# Altium integrated library Capacitors - Ceramic - 0402.IntLib: 4569 symbols (part 99 of 100)
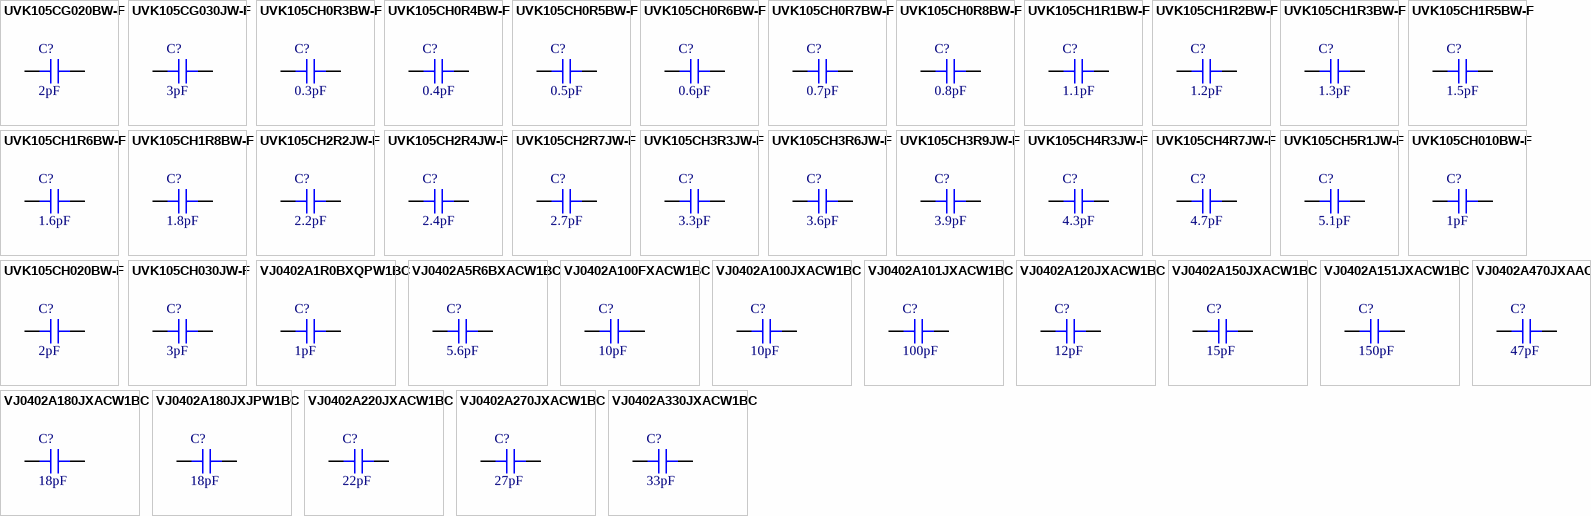
[diagram p212: symbols UVK105CG020BW-F to VJ0402A470JXAAC]

## UVK105CH4R3JW-F
designator C?, comment 4.3pF
CAP CER 4.3PF 50V C0H 0402; Part Number: UVK105CH4R3JW-F; Manufacturer: Taiyo Yuden; Tolerance: ±5%; Value: 4.3pF; Applications: RF, Microwave, High Frequency; Capacitance: 4.3pF; ComponentLink1Description: Datasheet; ComponentLink1URL: https://www.yuden.co.jp/productdata/catalog/mlcc04_e.pdf; ComponentLink2Description: DigiKey Link; ComponentLink2URL: http://digikey.com/product-detail/en/taiyo-yuden/UVK105CH4R3JW-F/587-1022-1-ND/930799; Device Package: 0402 (1005 Metric); Features: High Q, Low Loss; LastUpdated: 9/2/2020 1:02:14 AM; Lifecycle Status: Active; Minimum Order: 1; Mounting Type: Surface Mount, MLCC; Operating Temperature: -55°C ~ 125°C; Package / Case: 0402 (1005 Metric); Packaging: TapeAndReel; PartId: 6484; Part Status: Active; Price: 0.03; Series: UVK; Size / Dimension: 0.039" L x 0.020" W (1.00mm x 0.50mm); Supplier 1: DigiKey; Supplier Part Number 1: 587-1022-1-ND; Temperature Coefficient: C0H; Thickness (Max): 0.022" (0.55mm); Voltage - Rated: 50V
footprint CAP 0402_1005
pins: 1, 2

## UVK105CH4R7JW-F
designator C?, comment 4.7pF
CAP CER 4.7PF 50V C0H 0402; Part Number: UVK105CH4R7JW-F; Manufacturer: Taiyo Yuden; Tolerance: ±5%; Value: 4.7pF; Applications: RF, Microwave, High Frequency; Capacitance: 4.7pF; ComponentLink1Description: Datasheet; ComponentLink1URL: https://www.yuden.co.jp/productdata/catalog/mlcc04_e.pdf; ComponentLink2Description: DigiKey Link; ComponentLink2URL: http://digikey.com/product-detail/en/taiyo-yuden/UVK105CH4R7JW-F/587-1023-1-ND/930800; Device Package: 0402 (1005 Metric); Features: High Q, Low Loss; LastUpdated: 9/2/2020 1:02:23 AM; Lifecycle Status: Active; Minimum Order: 1; Mounting Type: Surface Mount, MLCC; Operating Temperature: -55°C ~ 125°C; Package / Case: 0402 (1005 Metric); Packaging: TapeAndReel; PartId: 2360; Part Status: Active; Price: 0.03; Series: UVK; Size / Dimension: 0.039" L x 0.020" W (1.00mm x 0.50mm); Supplier 1: DigiKey; Supplier Part Number 1: 587-1023-1-ND; Temperature Coefficient: C0H; Thickness (Max): 0.022" (0.55mm); Voltage - Rated: 50V
footprint CAP 0402_1005
pins: 1, 2

## UVK105CH5R1JW-F
designator C?, comment 5.1pF
CAP CER 5.1PF 50V C0H 0402; Part Number: UVK105CH5R1JW-F; Manufacturer: Taiyo Yuden; Tolerance: ±5%; Value: 5.1pF; Applications: RF, Microwave, High Frequency; Capacitance: 5.1pF; ComponentLink1Description: Datasheet; ComponentLink1URL: https://www.yuden.co.jp/productdata/catalog/mlcc04_e.pdf; ComponentLink2Description: DigiKey Link; ComponentLink2URL: http://digikey.com/product-detail/en/taiyo-yuden/UVK105CH5R1JW-F/587-1024-1-ND/930801; Device Package: 0402 (1005 Metric); Features: High Q, Low Loss; LastUpdated: 9/2/2020 1:02:14 AM; Lifecycle Status: Active; Minimum Order: 1; Mounting Type: Surface Mount, MLCC; Operating Temperature: -55°C ~ 125°C; Package / Case: 0402 (1005 Metric); Packaging: TapeAndReel; PartId: 6515; Part Status: Active; Price: 0.03; Series: UVK; Size / Dimension: 0.039" L x 0.020" W (1.00mm x 0.50mm); Supplier 1: DigiKey; Supplier Part Number 1: 587-1024-1-ND; Temperature Coefficient: C0H; Thickness (Max): 0.022" (0.55mm); Voltage - Rated: 50V
footprint CAP 0402_1005
pins: 1, 2

## UVK105CH010BW-F
designator C?, comment 1pF
CAP CER 1PF 50V C0H 0402; Part Number: UVK105CH010BW-F; Manufacturer: Taiyo Yuden; Tolerance: ±0.1pF; Value: 1pF; Applications: RF, Microwave, High Frequency; Capacitance: 1pF; ComponentLink1Description: Datasheet; ComponentLink1URL: https://www.yuden.co.jp/productdata/catalog/mlcc04_e.pdf; ComponentLink2Description: DigiKey Link; ComponentLink2URL: http://digikey.com/product-detail/en/taiyo-yuden/UVK105CH010BW-F/587-1007-1-ND/930784; Device Package: 0402 (1005 Metric); Features: High Q, Low Loss; LastUpdated: 9/2/2020 1:02:13 AM; Lifecycle Status: Active; Minimum Order: 1; Mounting Type: Surface Mount, MLCC; Operating Temperature: -55°C ~ 125°C; Package / Case: 0402 (1005 Metric); Packaging: TapeAndReel; PartId: 6909; Part Status: Active; Price: 0.03; Series: UVK; Size / Dimension: 0.039" L x 0.020" W (1.00mm x 0.50mm); Supplier 1: DigiKey; Supplier Part Number 1: 587-1007-1-ND; Temperature Coefficient: C0H; Thickness (Max): 0.022" (0.55mm); Voltage - Rated: 50V
footprint CAP 0402_1005
pins: 1, 2

## UVK105CH020BW-F
designator C?, comment 2pF
CAP CER 2PF 50V C0H 0402; Part Number: UVK105CH020BW-F; Manufacturer: Taiyo Yuden; Tolerance: ±0.1pF; Value: 2pF; Applications: RF, Microwave, High Frequency; Capacitance: 2pF; ComponentLink1Description: Datasheet; ComponentLink1URL: https://www.yuden.co.jp/productdata/catalog/mlcc04_e.pdf; ComponentLink2Description: DigiKey Link; ComponentLink2URL: http://digikey.com/product-detail/en/taiyo-yuden/UVK105CH020BW-F/587-1014-1-ND/930791; Device Package: 0402 (1005 Metric); Features: High Q, Low Loss; LastUpdated: 9/2/2020 1:02:23 AM; Lifecycle Status: Active; Minimum Order: 1; Mounting Type: Surface Mount, MLCC; Operating Temperature: -55°C ~ 125°C; Package / Case: 0402 (1005 Metric); Packaging: TapeAndReel; PartId: 2352; Part Status: Active; Price: 0.03; Series: UVK; Size / Dimension: 0.039" L x 0.020" W (1.00mm x 0.50mm); Supplier 1: DigiKey; Supplier Part Number 1: 587-1014-1-ND; Temperature Coefficient: C0H; Thickness (Max): 0.022" (0.55mm); Voltage - Rated: 50V
footprint CAP 0402_1005
pins: 1, 2

## UVK105CH030JW-F
designator C?, comment 3pF
CAP CER 3PF 50V C0H 0402; Part Number: UVK105CH030JW-F; Manufacturer: Taiyo Yuden; Tolerance: ±5%; Value: 3pF; Applications: RF, Microwave, High Frequency; Capacitance: 3pF; ComponentLink1Description: Datasheet; ComponentLink1URL: https://www.yuden.co.jp/productdata/catalog/mlcc04_e.pdf; ComponentLink2Description: DigiKey Link; ComponentLink2URL: http://digikey.com/product-detail/en/taiyo-yuden/UVK105CH030JW-F/587-1018-1-ND/930795; Device Package: 0402 (1005 Metric); Features: High Q, Low Loss; LastUpdated: 9/2/2020 1:02:23 AM; Lifecycle Status: Active; Minimum Order: 1; Mounting Type: Surface Mount, MLCC; Operating Temperature: -55°C ~ 125°C; Package / Case: 0402 (1005 Metric); Packaging: TapeAndReel; PartId: 2357; Part Status: Active; Price: 0.03; Series: UVK; Size / Dimension: 0.039" L x 0.020" W (1.00mm x 0.50mm); Supplier 1: DigiKey; Supplier Part Number 1: 587-1018-1-ND; Temperature Coefficient: C0H; Thickness (Max): 0.022" (0.55mm); Voltage - Rated: 50V
footprint CAP 0402_1005
pins: 1, 2

## VJ0402A1R0BXQPW1BC
designator C?, comment 1pF
CAP CER 1PF 10V C0G/NP0 0402; Part Number: VJ0402A1R0BXQPW1BC; Manufacturer: Vishay Vitramon; Temperature Coefficient: C0G, NP0; Tolerance: ±0.1pF; Value: 1pF; Applications: General Purpose; Capacitance: 1pF; ComponentLink1Description: Datasheet; ComponentLink1URL: https://www.vishay.com/docs/28548/vjw1bcbascomseries.pdf; ComponentLink2Description: DigiKey Link; ComponentLink2URL: http://digikey.com/product-detail/en/vishay-vitramon/VJ0402A1R0BXQPW1BC/720-VJ0402A1R0BXQPW1BCCT-ND/11198349; Device Package: 0402 (1005 Metric); LastUpdated: 9/2/2020 1:01:09 AM; Lifecycle Status: Active; Minimum Order: 1; Mounting Type: Surface Mount, MLCC; Operating Temperature: -55°C ~ 125°C; Package / Case: 0402 (1005 Metric); Packaging: TapeAndReel; PartId: 26167; Part Status: Active; Price: 0.02; Series: VJ; Supplier 1: DigiKey; Supplier Part Number 1: 720-VJ0402A1R0BXQPW1BCCT-ND; Voltage - Rated: 10V
footprint CAP 0402_1005
pins: 1, 2

## VJ0402A5R6BXACW1BC
designator C?, comment 5.6pF
CAP CER 5.6PF 50V C0G/NP0 0402; Part Number: VJ0402A5R6BXACW1BC; Manufacturer: Vishay Vitramon; Temperature Coefficient: C0G, NP0; Tolerance: ±0.1pF; Value: 5.6pF; Applications: General Purpose; Capacitance: 5.6pF; ComponentLink1Description: Datasheet; ComponentLink1URL: https://www.vishay.com/docs/28548/vjw1bcbascomseries.pdf; ComponentLink2Description: DigiKey Link; ComponentLink2URL: http://digikey.com/product-detail/en/vishay-vitramon/VJ0402A5R6BXACW1BC/720-VJ0402A5R6BXACW1BCCT-ND/11198455; Device Package: 0402 (1005 Metric); LastUpdated: 9/2/2020 1:01:09 AM; Lifecycle Status: Active; Minimum Order: 1; Mounting Type: Surface Mount, MLCC; Operating Temperature: -55°C ~ 125°C; Package / Case: 0402 (1005 Metric); Packaging: TapeAndReel; PartId: 26165; Part Status: Active; Price: 0.03; Series: VJ; Supplier 1: DigiKey; Supplier Part Number 1: 720-VJ0402A5R6BXACW1BCCT-ND; Voltage - Rated: 50V
footprint CAP 0402_1005
pins: 1, 2

## VJ0402A100FXACW1BC
designator C?, comment 10pF
CAP CER 10PF 50V C0G/NP0 0402; Part Number: VJ0402A100FXACW1BC; Manufacturer: Vishay Vitramon; Temperature Coefficient: C0G, NP0; Tolerance: ±1%; Value: 10pF; Applications: General Purpose; Capacitance: 10pF; ComponentLink1Description: Datasheet; ComponentLink1URL: https://www.vishay.com/docs/28548/vjw1bcbascomseries.pdf; ComponentLink2Description: DigiKey Link; ComponentLink2URL: http://digikey.com/product-detail/en/vishay-vitramon/VJ0402A100FXACW1BC/720-VJ0402A100FXACW1BCCT-ND/11198411; Device Package: 0402 (1005 Metric); LastUpdated: 9/2/2020 1:01:09 AM; Lifecycle Status: Active; Minimum Order: 1; Mounting Type: Surface Mount, MLCC; Operating Temperature: -55°C ~ 125°C; Package / Case: 0402 (1005 Metric); Packaging: TapeAndReel; PartId: 26164; Part Status: Active; Price: 0.03; Series: VJ; Supplier 1: DigiKey; Supplier Part Number 1: 720-VJ0402A100FXACW1BCCT-ND; Voltage - Rated: 50V
footprint CAP 0402_1005
pins: 1, 2

## VJ0402A100JXACW1BC
designator C?, comment 10pF
CAP CER 10PF 50V C0G/NP0 0402; Part Number: VJ0402A100JXACW1BC; Manufacturer: Vishay Vitramon; Temperature Coefficient: C0G, NP0; Tolerance: ±5%; Value: 10pF; Applications: General Purpose; Capacitance: 10pF; ComponentLink1Description: Datasheet; ComponentLink1URL: https://www.vishay.com/docs/28548/vjw1bcbascomseries.pdf; ComponentLink2Description: DigiKey Link; ComponentLink2URL: http://digikey.com/product-detail/en/vishay-vitramon/VJ0402A100JXACW1BC/720-1592-1-ND/420952; Device Package: 0402 (1005 Metric); LastUpdated: 9/2/2020 1:02:23 AM; Lifecycle Status: Active; Minimum Order: 1; Mounting Type: Surface Mount, MLCC; Operating Temperature: -55°C ~ 125°C; Package / Case: 0402 (1005 Metric); Packaging: TapeAndReel; PartId: 2226; Part Status: Active; Price: 0.02; Series: VJ; Size / Dimension: 0.039" L x 0.020" W (1.00mm x 0.50mm); Supplier 1: DigiKey; Supplier Part Number 1: 720-1592-1-ND; Thickness (Max): 0.022" (0.55mm); Voltage - Rated: 50V
footprint CAP 0402_1005
pins: 1, 2

## VJ0402A101JXACW1BC
designator C?, comment 100pF
CAP CER 100PF 50V C0G/NP0 0402; Part Number: VJ0402A101JXACW1BC; Manufacturer: Vishay Vitramon; Temperature Coefficient: C0G, NP0; Tolerance: ±5%; Value: 100pF; Applications: General Purpose; Capacitance: 100pF; ComponentLink1Description: Datasheet; ComponentLink1URL: https://www.vishay.com/docs/28548/vjw1bcbascomseries.pdf; ComponentLink2Description: DigiKey Link; ComponentLink2URL: http://digikey.com/product-detail/en/vishay-vitramon/VJ0402A101JXACW1BC/720-1520-1-ND/420961; Device Package: 0402 (1005 Metric); LastUpdated: 9/2/2020 1:02:23 AM; Lifecycle Status: Active; Minimum Order: 1; Mounting Type: Surface Mount, MLCC; Operating Temperature: -55°C ~ 125°C; Package / Case: 0402 (1005 Metric); Packaging: TapeAndReel; PartId: 2228; Part Status: Active; Price: 0.02; Series: VJ; Size / Dimension: 0.039" L x 0.020" W (1.00mm x 0.50mm); Supplier 1: DigiKey; Supplier Part Number 1: 720-1520-1-ND; Thickness (Max): 0.022" (0.55mm); Voltage - Rated: 50V
footprint CAP 0402_1005
pins: 1, 2

## VJ0402A120JXACW1BC
designator C?, comment 12pF
CAP CER 12PF 50V C0G/NP0 0402; Part Number: VJ0402A120JXACW1BC; Manufacturer: Vishay Vitramon; Temperature Coefficient: C0G, NP0; Tolerance: ±5%; Value: 12pF; Applications: General Purpose; Capacitance: 12pF; ComponentLink1Description: Datasheet; ComponentLink1URL: https://www.vishay.com/docs/28548/vjw1bcbascomseries.pdf; ComponentLink2Description: DigiKey Link; ComponentLink2URL: http://digikey.com/product-detail/en/vishay-vitramon/VJ0402A120JXACW1BC/720-1519-1-ND/420953; Device Package: 0402 (1005 Metric); LastUpdated: 9/2/2020 1:02:11 AM; Lifecycle Status: Active; Minimum Order: 1; Mounting Type: Surface Mount, MLCC; Operating Temperature: -55°C ~ 125°C; Package / Case: 0402 (1005 Metric); Packaging: TapeAndReel; PartId: 7717; Part Status: Active; Price: 0.02; Series: VJ; Size / Dimension: 0.039" L x 0.020" W (1.00mm x 0.50mm); Supplier 1: DigiKey; Supplier Part Number 1: 720-1519-1-ND; Thickness (Max): 0.022" (0.55mm); Voltage - Rated: 50V
footprint CAP 0402_1005
pins: 1, 2

## VJ0402A150JXACW1BC
designator C?, comment 15pF
CAP CER 15PF 50V C0G/NP0 0402; Part Number: VJ0402A150JXACW1BC; Manufacturer: Vishay Vitramon; Temperature Coefficient: C0G, NP0; Tolerance: ±5%; Value: 15pF; Applications: General Purpose; Capacitance: 15pF; ComponentLink1Description: Datasheet; ComponentLink1URL: https://www.vishay.com/docs/28548/vjw1bcbascomseries.pdf; ComponentLink2Description: DigiKey Link; ComponentLink2URL: http://digikey.com/product-detail/en/vishay-vitramon/VJ0402A150JXACW1BC/720-VJ0402A150JXACW1BCCT-ND/11198378; Device Package: 0402 (1005 Metric); LastUpdated: 9/2/2020 1:01:09 AM; Lifecycle Status: Active; Minimum Order: 1; Mounting Type: Surface Mount, MLCC; Operating Temperature: -55°C ~ 125°C; Package / Case: 0402 (1005 Metric); Packaging: TapeAndReel; PartId: 26170; Part Status: Active; Price: 0.02; Series: VJ; Supplier 1: DigiKey; Supplier Part Number 1: 720-VJ0402A150JXACW1BCCT-ND; Voltage - Rated: 50V
footprint CAP 0402_1005
pins: 1, 2

## VJ0402A151JXACW1BC
designator C?, comment 150pF
CAP CER 150PF 50V C0G/NP0 0402; Part Number: VJ0402A151JXACW1BC; Manufacturer: Vishay Vitramon; Temperature Coefficient: C0G, NP0; Tolerance: ±5%; Value: 150pF; Applications: General Purpose; Capacitance: 150pF; ComponentLink1Description: Datasheet; ComponentLink1URL: https://www.vishay.com/docs/28548/vjw1bcbascomseries.pdf; ComponentLink2Description: DigiKey Link; ComponentLink2URL: http://digikey.com/product-detail/en/vishay-vitramon/VJ0402A151JXACW1BC/720-VJ0402A151JXACW1BCCT-ND/11198279; Device Package: 0402 (1005 Metric); LastUpdated: 9/2/2020 1:01:10 AM; Lifecycle Status: Active; Minimum Order: 1; Mounting Type: Surface Mount, MLCC; Operating Temperature: -55°C ~ 125°C; Package / Case: 0402 (1005 Metric); Packaging: TapeAndReel; PartId: 26171; Part Status: Active; Price: 0.02; Series: VJ; Supplier 1: DigiKey; Supplier Part Number 1: 720-VJ0402A151JXACW1BCCT-ND; Voltage - Rated: 50V
footprint CAP 0402_1005
pins: 1, 2

## VJ0402A180JXACW1BC
designator C?, comment 18pF
CAP CER 18PF 50V C0G/NP0 0402; Part Number: VJ0402A180JXACW1BC; Manufacturer: Vishay Vitramon; Temperature Coefficient: C0G, NP0; Tolerance: ±5%; Value: 18pF; Applications: General Purpose; Capacitance: 18pF; ComponentLink1Description: Datasheet; ComponentLink1URL: https://www.vishay.com/docs/28548/vjw1bcbascomseries.pdf; ComponentLink2Description: DigiKey Link; ComponentLink2URL: http://digikey.com/product-detail/en/vishay-vitramon/VJ0402A180JXACW1BC/720-VJ0402A180JXACW1BCCT-ND/11198501; Device Package: 0402 (1005 Metric); LastUpdated: 9/2/2020 1:01:09 AM; Lifecycle Status: Active; Minimum Order: 1; Mounting Type: Surface Mount, MLCC; Operating Temperature: -55°C ~ 125°C; Package / Case: 0402 (1005 Metric); Packaging: TapeAndReel; PartId: 26168; Part Status: Active; Price: 0.02; Series: VJ; Supplier 1: DigiKey; Supplier Part Number 1: 720-VJ0402A180JXACW1BCCT-ND; Voltage - Rated: 50V
footprint CAP 0402_1005
pins: 1, 2

## VJ0402A180JXJPW1BC
designator C?, comment 18pF
CAP CER 18PF 16V C0G/NP0 0402; Part Number: VJ0402A180JXJPW1BC; Manufacturer: Vishay Vitramon; Temperature Coefficient: C0G, NP0; Tolerance: ±5%; Value: 18pF; Applications: General Purpose; Capacitance: 18pF; ComponentLink1Description: Datasheet; ComponentLink1URL: https://www.vishay.com/docs/28548/vjw1bcbascomseries.pdf; ComponentLink2Description: DigiKey Link; ComponentLink2URL: http://digikey.com/product-detail/en/vishay-vitramon/VJ0402A180JXJPW1BC/720-1639-1-ND/8324059; Device Package: 0402 (1005 Metric); LastUpdated: 9/2/2020 1:02:23 AM; Lifecycle Status: Active; Minimum Order: 1; Mounting Type: Surface Mount, MLCC; Operating Temperature: -55°C ~ 125°C; Package / Case: 0402 (1005 Metric); Packaging: TapeAndReel; PartId: 2399; Part Status: Active; Price: 0.01; Series: VJ; Size / Dimension: 0.039" L x 0.020" W (1.00mm x 0.50mm); Supplier 1: DigiKey; Supplier Part Number 1: 720-1639-1-ND; Thickness (Max): 0.022" (0.55mm); Voltage - Rated: 16V
footprint CAP 0402_1005
pins: 1, 2

## VJ0402A220JXACW1BC
designator C?, comment 22pF
CAP CER 22PF 50V C0G/NP0 0402; Part Number: VJ0402A220JXACW1BC; Manufacturer: Vishay Vitramon; Temperature Coefficient: C0G, NP0; Tolerance: ±5%; Value: 22pF; Applications: General Purpose; Capacitance: 22pF; ComponentLink1Description: Datasheet; ComponentLink1URL: https://www.vishay.com/docs/28548/vjw1bcbascomseries.pdf; ComponentLink2Description: DigiKey Link; ComponentLink2URL: http://digikey.com/product-detail/en/vishay-vitramon/VJ0402A220JXACW1BC/720-1593-1-ND/420954; Device Package: 0402 (1005 Metric); LastUpdated: 9/2/2020 1:02:11 AM; Lifecycle Status: Active; Minimum Order: 1; Mounting Type: Surface Mount, MLCC; Operating Temperature: -55°C ~ 125°C; Package / Case: 0402 (1005 Metric); Packaging: TapeAndReel; PartId: 7673; Part Status: Active; Price: 0.01; Series: VJ; Size / Dimension: 0.039" L x 0.020" W (1.00mm x 0.50mm); Supplier 1: DigiKey; Supplier Part Number 1: 720-1593-1-ND; Thickness (Max): 0.022" (0.55mm); Voltage - Rated: 50V
footprint CAP 0402_1005
pins: 1, 2

## VJ0402A270JXACW1BC
designator C?, comment 27pF
CAP CER 27PF 50V C0G/NP0 0402; Part Number: VJ0402A270JXACW1BC; Manufacturer: Vishay Vitramon; Temperature Coefficient: C0G, NP0; Tolerance: ±5%; Value: 27pF; Applications: General Purpose; Capacitance: 27pF; ComponentLink1Description: Datasheet; ComponentLink1URL: https://www.vishay.com/docs/28548/vjw1bcbascomseries.pdf; ComponentLink2Description: DigiKey Link; ComponentLink2URL: http://digikey.com/product-detail/en/vishay-vitramon/VJ0402A270JXACW1BC/BC1198TR-ND/420813; Device Package: 0402 (1005 Metric); LastUpdated: 9/2/2020 1:01:10 AM; Lifecycle Status: Active; Minimum Order: 10000; Mounting Type: Surface Mount, MLCC; Operating Temperature: -55°C ~ 125°C; Package / Case: 0402 (1005 Metric); Packaging: TapeAndReel; PartId: 26177; Part Status: Active; Price: 0.02; Series: VJ; Supplier 1: DigiKey; Supplier Part Number 1: BC1198TR-ND; Voltage - Rated: 50V
footprint CAP 0402_1005
pins: 1, 2

## VJ0402A330JXACW1BC
designator C?, comment 33pF
CAP CER 33PF 50V C0G/NP0 0402; Part Number: VJ0402A330JXACW1BC; Manufacturer: Vishay Vitramon; Temperature Coefficient: C0G, NP0; Tolerance: ±5%; Value: 33pF; Applications: General Purpose; Capacitance: 33pF; ComponentLink1Description: Datasheet; ComponentLink1URL: https://www.vishay.com/docs/28548/vjw1bcbascomseries.pdf; ComponentLink2Description: DigiKey Link; ComponentLink2URL: http://digikey.com/product-detail/en/vishay-vitramon/VJ0402A330JXACW1BC/720-1614-1-ND/420956; Device Package: 0402 (1005 Metric); LastUpdated: 9/2/2020 1:02:11 AM; Lifecycle Status: Active; Minimum Order: 1; Mounting Type: Surface Mount, MLCC; Operating Temperature: -55°C ~ 125°C; Package / Case: 0402 (1005 Metric); Packaging: TapeAndReel; PartId: 7882; Part Status: Active; Price: 0.02; Series: VJ; Size / Dimension: 0.039" L x 0.020" W (1.00mm x 0.50mm); Supplier 1: DigiKey; Supplier Part Number 1: 720-1614-1-ND; Thickness (Max): 0.022" (0.55mm); Voltage - Rated: 50V
footprint CAP 0402_1005
pins: 1, 2

## VJ0402A470JXAAC
designator C?, comment 47pF
CAP CER 47PF 50V C0G/NP0 0402; Part Number: VJ0402A470JXAAC; Manufacturer: Vishay Vitramon; Temperature Coefficient: C0G, NP0; Tolerance: ±5%; Value: 47pF; Applications: General Purpose; Capacitance: 47pF; ComponentLink1Description: Datasheet; ComponentLink1URL: http://www.vishay.com/docs/45199/vjcommercialseries.pdf; ComponentLink2Description: DigiKey Link; ComponentLink2URL: http://digikey.com/product-detail/en/vishay-vitramon/VJ0402A470JXAAC/720-1543-1-ND/6096540; Device Package: 0402 (1005 Metric); LastUpdated: 9/2/2020 1:02:06 AM; Lifecycle Status: Active; Minimum Order: 1; Mounting Type: Surface Mount, MLCC; Operating Temperature: -55°C ~ 125°C; Package / Case: 0402 (1005 Metric); Packaging: TapeAndReel; PartId: 9870; Part Status: Active; Price: 0.25; Series: VJ; Size / Dimension: 0.039" L x 0.020" W (1.00mm x 0.50mm); Supplier 1: DigiKey; Supplier Part Number 1: 720-1543-1-ND; Thickness (Max): 0.024" (0.60mm); Voltage - Rated: 50V
footprint CAP 0402_1005
pins: 1, 2

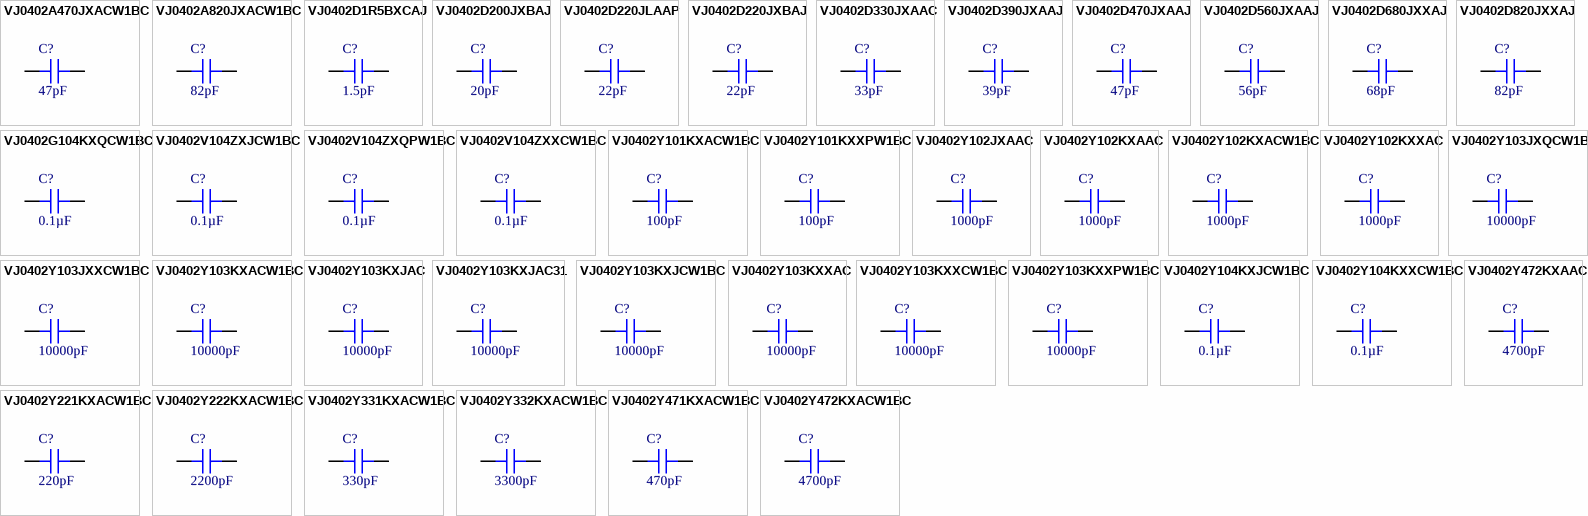
[diagram p113: symbols VJ0402A470JXACW1BC to VJ0402Y472KXACW1BC]

## VJ0402A470JXACW1BC
designator C?, comment 47pF
CAP CER 47PF 50V C0G/NP0 0402; Part Number: VJ0402A470JXACW1BC; Manufacturer: Vishay Vitramon; Temperature Coefficient: C0G, NP0; Tolerance: ±5%; Value: 47pF; Applications: General Purpose; Capacitance: 47pF; ComponentLink1Description: Datasheet; ComponentLink1URL: https://www.vishay.com/docs/28548/vjw1bcbascomseries.pdf; ComponentLink2Description: DigiKey Link; ComponentLink2URL: http://digikey.com/product-detail/en/vishay-vitramon/VJ0402A470JXACW1BC/720-1615-1-ND/420958; Device Package: 0402 (1005 Metric); LastUpdated: 9/2/2020 1:02:06 AM; Lifecycle Status: Active; Minimum Order: 1; Mounting Type: Surface Mount, MLCC; Operating Temperature: -55°C ~ 125°C; Package / Case: 0402 (1005 Metric); Packaging: TapeAndReel; PartId: 10103; Part Status: Active; Price: 0.01; Series: VJ; Size / Dimension: 0.039" L x 0.020" W (1.00mm x 0.50mm); Supplier 1: DigiKey; Supplier Part Number 1: 720-1615-1-ND; Thickness (Max): 0.022" (0.55mm); Voltage - Rated: 50V
footprint CAP 0402_1005
pins: 1, 2

## VJ0402A820JXACW1BC
designator C?, comment 82pF
CAP CER 82PF 50V C0G/NP0 0402; Part Number: VJ0402A820JXACW1BC; Manufacturer: Vishay Vitramon; Temperature Coefficient: C0G, NP0; Tolerance: ±5%; Value: 82pF; Applications: General Purpose; Capacitance: 82pF; ComponentLink1Description: Datasheet; ComponentLink1URL: https://www.vishay.com/docs/28548/vjw1bcbascomseries.pdf; ComponentLink2Description: DigiKey Link; ComponentLink2URL: http://digikey.com/product-detail/en/vishay-vitramon/VJ0402A820JXACW1BC/BC1203TR-ND/420818; Device Package: 0402 (1005 Metric); LastUpdated: 9/2/2020 1:01:10 AM; Lifecycle Status: Active; Minimum Order: 10000; Mounting Type: Surface Mount, MLCC; Operating Temperature: -55°C ~ 125°C; Package / Case: 0402 (1005 Metric); Packaging: TapeAndReel; PartId: 26176; Part Status: Active; Price: 0.02; Series: VJ; Supplier 1: DigiKey; Supplier Part Number 1: BC1203TR-ND; Voltage - Rated: 50V
footprint CAP 0402_1005
pins: 1, 2

## VJ0402D1R5BXCAJ
designator C?, comment 1.5pF
CAP CER 1.5PF 200V C0G/NP0 0402; Part Number: VJ0402D1R5BXCAJ; Manufacturer: Vishay Vitramon; Temperature Coefficient: C0G, NP0; Tolerance: ±0.1pF; Value: 1.5pF; Applications: RF, Microwave, High Frequency; Capacitance: 1.5pF; ComponentLink1Description: Datasheet; ComponentLink1URL: http://www.vishay.com/docs/45071/vjhifreq.pdf; ComponentLink2Description: DigiKey Link; ComponentLink2URL: http://digikey.com/product-detail/en/vishay-vitramon/VJ0402D1R5BXCAJ/720-1283-1-ND/3280697; Device Package: 0402 (1005 Metric); Features: High Q, Low Loss; LastUpdated: 9/2/2020 1:01:08 AM; Lifecycle Status: Active; Minimum Order: 1; Mounting Type: Surface Mount, MLCC; Operating Temperature: -55°C ~ 125°C; Package / Case: 0402 (1005 Metric); Packaging: TapeAndReel; PartId: 26151; Part Status: Active; Price: 0.21; Series: VJ HIFREQ; Supplier 1: DigiKey; Supplier Part Number 1: 720-1283-1-ND; Voltage - Rated: 200V
footprint CAP 0402_1005
pins: 1, 2

## VJ0402D200JXBAJ
designator C?, comment 20pF
CAP CER 20PF 100V C0G/NP0 0402; Part Number: VJ0402D200JXBAJ; Manufacturer: Vishay Vitramon; Temperature Coefficient: C0G, NP0; Tolerance: ±5%; Value: 20pF; Applications: RF, Microwave, High Frequency; Capacitance: 20pF; ComponentLink1Description: Datasheet; ComponentLink1URL: http://www.vishay.com/docs/45071/vjhifreq.pdf; ComponentLink2Description: DigiKey Link; ComponentLink2URL: http://digikey.com/product-detail/en/vishay-vitramon/VJ0402D200JXBAJ/720-1285-1-ND/3280699; Device Package: 0402 (1005 Metric); Features: High Q, Low Loss; LastUpdated: 9/2/2020 1:01:11 AM; Lifecycle Status: Active; Minimum Order: 1; Mounting Type: Surface Mount, MLCC; Operating Temperature: -55°C ~ 125°C; Package / Case: 0402 (1005 Metric); Packaging: TapeAndReel; PartId: 26186; Part Status: Active; Price: 0.14; Series: VJ HIFREQ; Supplier 1: DigiKey; Supplier Part Number 1: 720-1285-1-ND; Voltage - Rated: 100V
footprint CAP 0402_1005
pins: 1, 2

## VJ0402D220JLAAP
designator C?, comment 22pF
CAP CER 22PF 50V C0G/NP0 0402; Part Number: VJ0402D220JLAAP; Manufacturer: Vishay Vitramon; Temperature Coefficient: C0G, NP0; Tolerance: ±5%; Value: 22pF; Applications: RF, Microwave, High Frequency; Capacitance: 22pF; ComponentLink1Description: Datasheet; ComponentLink1URL: http://www.vishay.com/docs/45071/vjhifreq.pdf; ComponentLink2Description: DigiKey Link; ComponentLink2URL: http://digikey.com/product-detail/en/vishay-vitramon/VJ0402D220JLAAP/720-1609-1-ND/7796706; Device Package: 0402 (1005 Metric); Features: High Q, Low Loss; LastUpdated: 9/2/2020 1:02:04 AM; Lifecycle Status: Active; Minimum Order: 0; Mounting Type: Surface Mount, MLCC; Operating Temperature: -55°C ~ 125°C; Package / Case: 0402 (1005 Metric); Packaging: TapeAndReel; PartId: 10992; Part Status: Active; Price: 0.24; Series: VJ HIFREQ; Size / Dimension: 0.040" L x 0.020" W (1.02mm x 0.51mm); Supplier 1: DigiKey; Supplier Part Number 1: 720-1609-1-ND; Thickness (Max): 0.024" (0.61mm); Voltage - Rated: 50V
footprint CAP 0402_1005
pins: 1, 2

## VJ0402D220JXBAJ
designator C?, comment 22pF
CAP CER 22PF 100V C0G/NP0 0402; Part Number: VJ0402D220JXBAJ; Manufacturer: Vishay Vitramon; Temperature Coefficient: C0G, NP0; Tolerance: ±5%; Value: 22pF; Applications: RF, Microwave, High Frequency; Capacitance: 22pF; ComponentLink1Description: Datasheet; ComponentLink1URL: http://www.vishay.com/docs/45071/vjhifreq.pdf; ComponentLink2Description: DigiKey Link; ComponentLink2URL: http://digikey.com/product-detail/en/vishay-vitramon/VJ0402D220JXBAJ/720-1286-1-ND/3280700; Device Package: 0402 (1005 Metric); Features: High Q, Low Loss; LastUpdated: 9/2/2020 1:02:07 AM; Lifecycle Status: Active; Minimum Order: 1; Mounting Type: Surface Mount, MLCC; Operating Temperature: -55°C ~ 125°C; Package / Case: 0402 (1005 Metric); Packaging: TapeAndReel; PartId: 9727; Part Status: Active; Price: 0.13; Series: VJ HIFREQ; Size / Dimension: 0.040" L x 0.020" W (1.02mm x 0.51mm); Supplier 1: DigiKey; Supplier Part Number 1: 720-1286-1-ND; Thickness (Max): 0.024" (0.61mm); Voltage - Rated: 100V
footprint CAP 0402_1005
pins: 1, 2

## VJ0402D330JXAAC
designator C?, comment 33pF
CAP CER 33PF 50V C0G/NP0 0402; Part Number: VJ0402D330JXAAC; Manufacturer: Vishay Vitramon; Temperature Coefficient: C0G, NP0; Tolerance: ±5%; Value: 33pF; Applications: RF, Microwave, High Frequency; Capacitance: 33pF; ComponentLink1Description: Datasheet; ComponentLink1URL: http://www.vishay.com/docs/45071/vjhifreq.pdf; ComponentLink2Description: DigiKey Link; ComponentLink2URL: http://digikey.com/product-detail/en/vishay-vitramon/VJ0402D330JXAAC/720-1610-1-ND/7796707; Device Package: 0402 (1005 Metric); Features: High Q, Low Loss; LastUpdated: 9/2/2020 1:02:03 AM; Lifecycle Status: Active; Minimum Order: 0; Mounting Type: Surface Mount, MLCC; Operating Temperature: -55°C ~ 125°C; Package / Case: 0402 (1005 Metric); Packaging: TapeAndReel; PartId: 11283; Part Status: Active; Price: 0.25; Series: VJ HIFREQ; Size / Dimension: 0.040" L x 0.020" W (1.02mm x 0.51mm); Supplier 1: DigiKey; Supplier Part Number 1: 720-1610-1-ND; Thickness (Max): 0.024" (0.61mm); Voltage - Rated: 50V
footprint CAP 0402_1005
pins: 1, 2

## VJ0402D390JXAAJ
designator C?, comment 39pF
CAP CER 39PF 50V C0G/NP0 0402; Part Number: VJ0402D390JXAAJ; Manufacturer: Vishay Vitramon; Temperature Coefficient: C0G, NP0; Tolerance: ±5%; Value: 39pF; Applications: RF, Microwave, High Frequency; Capacitance: 39pF; ComponentLink1Description: Datasheet; ComponentLink1URL: http://www.vishay.com/docs/45071/vjhifreq.pdf; ComponentLink2Description: DigiKey Link; ComponentLink2URL: http://digikey.com/product-detail/en/vishay-vitramon/VJ0402D390JXAAJ/720-1288-1-ND/3280702; Device Package: 0402 (1005 Metric); Features: High Q, Low Loss; LastUpdated: 9/2/2020 1:02:23 AM; Lifecycle Status: Active; Minimum Order: 1; Mounting Type: Surface Mount, MLCC; Operating Temperature: -55°C ~ 125°C; Package / Case: 0402 (1005 Metric); Packaging: TapeAndReel; PartId: 2296; Part Status: Active; Price: 0.15; Series: VJ HIFREQ; Size / Dimension: 0.040" L x 0.020" W (1.02mm x 0.51mm); Supplier 1: DigiKey; Supplier Part Number 1: 720-1288-1-ND; Thickness (Max): 0.024" (0.61mm); Voltage - Rated: 50V
footprint CAP 0402_1005
pins: 1, 2

## VJ0402D470JXAAJ
designator C?, comment 47pF
CAP CER 47PF 50V C0G/NP0 0402; Part Number: VJ0402D470JXAAJ; Manufacturer: Vishay Vitramon; Temperature Coefficient: C0G, NP0; Tolerance: ±5%; Value: 47pF; Applications: RF, Microwave, High Frequency; Capacitance: 47pF; ComponentLink1Description: Datasheet; ComponentLink1URL: http://www.vishay.com/docs/45071/vjhifreq.pdf; ComponentLink2Description: DigiKey Link; ComponentLink2URL: http://digikey.com/product-detail/en/vishay-vitramon/VJ0402D470JXAAJ/720-1291-1-ND/3280705; Device Package: 0402 (1005 Metric); Features: High Q, Low Loss; LastUpdated: 9/2/2020 1:02:23 AM; Lifecycle Status: Active; Minimum Order: 1; Mounting Type: Surface Mount, MLCC; Operating Temperature: -55°C ~ 125°C; Package / Case: 0402 (1005 Metric); Packaging: TapeAndReel; PartId: 2289; Part Status: Active; Price: 0.13; Series: VJ HIFREQ; Size / Dimension: 0.040" L x 0.020" W (1.02mm x 0.51mm); Supplier 1: DigiKey; Supplier Part Number 1: 720-1291-1-ND; Thickness (Max): 0.024" (0.61mm); Voltage - Rated: 50V
footprint CAP 0402_1005
pins: 1, 2

## VJ0402D560JXAAJ
designator C?, comment 56pF
CAP CER 56PF 50V C0G/NP0 0402; Part Number: VJ0402D560JXAAJ; Manufacturer: Vishay Vitramon; Temperature Coefficient: C0G, NP0; Tolerance: ±5%; Value: 56pF; Applications: RF, Microwave, High Frequency; Capacitance: 56pF; ComponentLink1Description: Datasheet; ComponentLink1URL: http://www.vishay.com/docs/45071/vjhifreq.pdf; ComponentLink2Description: DigiKey Link; ComponentLink2URL: http://digikey.com/product-detail/en/vishay-vitramon/VJ0402D560JXAAJ/720-1293-1-ND/3280707; Device Package: 0402 (1005 Metric); Features: High Q, Low Loss; LastUpdated: 9/2/2020 1:02:23 AM; Lifecycle Status: Active; Minimum Order: 1; Mounting Type: Surface Mount, MLCC; Operating Temperature: -55°C ~ 125°C; Package / Case: 0402 (1005 Metric); Packaging: TapeAndReel; PartId: 2294; Part Status: Active; Price: 0.13; Series: VJ HIFREQ; Size / Dimension: 0.040" L x 0.020" W (1.02mm x 0.51mm); Supplier 1: DigiKey; Supplier Part Number 1: 720-1293-1-ND; Thickness (Max): 0.024" (0.61mm); Voltage - Rated: 50V
footprint CAP 0402_1005
pins: 1, 2

## VJ0402D680JXXAJ
designator C?, comment 68pF
CAP CER 68PF 25V C0G/NP0 0402; Part Number: VJ0402D680JXXAJ; Manufacturer: Vishay Vitramon; Temperature Coefficient: C0G, NP0; Tolerance: ±5%; Value: 68pF; Applications: RF, Microwave, High Frequency; Capacitance: 68pF; ComponentLink1Description: Datasheet; ComponentLink1URL: http://www.vishay.com/docs/45071/vjhifreq.pdf; ComponentLink2Description: DigiKey Link; ComponentLink2URL: http://digikey.com/product-detail/en/vishay-vitramon/VJ0402D680JXXAJ/720-1295-1-ND/3280709; Device Package: 0402 (1005 Metric); Features: High Q, Low Loss; LastUpdated: 9/2/2020 1:02:23 AM; Lifecycle Status: Active; Minimum Order: 1; Mounting Type: Surface Mount, MLCC; Operating Temperature: -55°C ~ 125°C; Package / Case: 0402 (1005 Metric); Packaging: TapeAndReel; PartId: 2287; Part Status: Active; Price: 0.13; Series: VJ HIFREQ; Size / Dimension: 0.040" L x 0.020" W (1.02mm x 0.51mm); Supplier 1: DigiKey; Supplier Part Number 1: 720-1295-1-ND; Thickness (Max): 0.024" (0.61mm); Voltage - Rated: 25V
footprint CAP 0402_1005
pins: 1, 2

## VJ0402D820JXXAJ
designator C?, comment 82pF
CAP CER 82PF 25V C0G/NP0 0402; Part Number: VJ0402D820JXXAJ; Manufacturer: Vishay Vitramon; Temperature Coefficient: C0G, NP0; Tolerance: ±5%; Value: 82pF; Applications: RF, Microwave, High Frequency; Capacitance: 82pF; ComponentLink1Description: Datasheet; ComponentLink1URL: http://www.vishay.com/docs/45071/vjhifreq.pdf; ComponentLink2Description: DigiKey Link; ComponentLink2URL: http://digikey.com/product-detail/en/vishay-vitramon/VJ0402D820JXXAJ/720-1297-1-ND/3280711; Device Package: 0402 (1005 Metric); Features: High Q, Low Loss; LastUpdated: 9/2/2020 1:02:23 AM; Lifecycle Status: Active; Minimum Order: 1; Mounting Type: Surface Mount, MLCC; Operating Temperature: -55°C ~ 125°C; Package / Case: 0402 (1005 Metric); Packaging: TapeAndReel; PartId: 2291; Part Status: Active; Price: 0.14; Series: VJ HIFREQ; Size / Dimension: 0.040" L x 0.020" W (1.02mm x 0.51mm); Supplier 1: DigiKey; Supplier Part Number 1: 720-1297-1-ND; Thickness (Max): 0.024" (0.61mm); Voltage - Rated: 25V
footprint CAP 0402_1005
pins: 1, 2

## VJ0402G104KXQCW1BC
designator C?, comment 0.1µF
CAP CER 0.1UF 10V X5R 0402; Part Number: VJ0402G104KXQCW1BC; Manufacturer: Vishay Vitramon; Tolerance: ±10%; Value: 0.1µF; Applications: General Purpose; Capacitance: 0.1µF; ComponentLink1Description: Datasheet; ComponentLink1URL: https://www.vishay.com/docs/28548/vjw1bcbascomseries.pdf; ComponentLink2Description: DigiKey Link; ComponentLink2URL: http://digikey.com/product-detail/en/vishay-vitramon/VJ0402G104KXQCW1BC/720-1640-1-ND/8324060; Device Package: 0402 (1005 Metric); LastUpdated: 9/2/2020 1:01:25 AM; Lifecycle Status: Active; Minimum Order: 1; Mounting Type: Surface Mount, MLCC; Operating Temperature: -55°C ~ 85°C; Package / Case: 0402 (1005 Metric); Packaging: TapeAndReel; PartId: 13050; Part Status: Active; Price: 0.02; Series: VJ; Size / Dimension: 0.039" L x 0.020" W (1.00mm x 0.50mm); Supplier 1: DigiKey; Supplier Part Number 1: 720-1640-1-ND; Temperature Coefficient: X5R; Thickness (Max): 0.022" (0.55mm); Voltage - Rated: 10V
footprint CAP 0402_1005
pins: 1, 2

## VJ0402V104ZXJCW1BC
designator C?, comment 0.1µF
CAP CER 0.1UF 16V Y5V 0402; Part Number: VJ0402V104ZXJCW1BC; Manufacturer: Vishay Vitramon; Temperature Coefficient: Y5V (F); Tolerance: -20%, +80%; Value: 0.1µF; Applications: General Purpose; Capacitance: 0.1µF; ComponentLink1Description: Datasheet; ComponentLink1URL: https://www.vishay.com/docs/28548/vjw1bcbascomseries.pdf; ComponentLink2Description: DigiKey Link; ComponentLink2URL: http://digikey.com/product-detail/en/vishay-vitramon/VJ0402V104ZXJCW1BC/720-1523-1-ND/420979; Device Package: 0402 (1005 Metric); LastUpdated: 9/2/2020 1:01:27 AM; Lifecycle Status: Active; Minimum Order: 1; Mounting Type: Surface Mount, MLCC; Operating Temperature: -30°C ~ 85°C; Package / Case: 0402 (1005 Metric); Packaging: TapeAndReel; PartId: 12979; Part Status: Active; Price: 0.01; Series: VJ; Size / Dimension: 0.039" L x 0.020" W (1.00mm x 0.50mm); Supplier 1: DigiKey; Supplier Part Number 1: 720-1523-1-ND; Thickness (Max): 0.022" (0.55mm); Voltage - Rated: 16V
footprint CAP 0402_1005
pins: 1, 2

## VJ0402V104ZXQPW1BC
designator C?, comment 0.1µF
CAP CER 0.1UF 10V Y5V 0402; Part Number: VJ0402V104ZXQPW1BC; Manufacturer: Vishay Vitramon; Temperature Coefficient: Y5V (F); Tolerance: -20%, +80%; Value: 0.1µF; Applications: General Purpose; Capacitance: 0.1µF; ComponentLink1Description: Datasheet; ComponentLink1URL: https://www.vishay.com/docs/28548/vjw1bcbascomseries.pdf; ComponentLink2Description: DigiKey Link; ComponentLink2URL: http://digikey.com/product-detail/en/vishay-vitramon/VJ0402V104ZXQPW1BC/720-VJ0402V104ZXQPW1BCCT-ND/11198094; Device Package: 0402 (1005 Metric); LastUpdated: 9/2/2020 1:01:10 AM; Lifecycle Status: Active; Minimum Order: 1; Mounting Type: Surface Mount, MLCC; Operating Temperature: -25°C ~ 85°C; Package / Case: 0402 (1005 Metric); Packaging: TapeAndReel; PartId: 26179; Part Status: Active; Price: 0.01; Series: VJ; Supplier 1: DigiKey; Supplier Part Number 1: 720-VJ0402V104ZXQPW1BCCT-ND; Voltage - Rated: 10V
footprint CAP 0402_1005
pins: 1, 2

## VJ0402V104ZXXCW1BC
designator C?, comment 0.1µF
CAP CER 0.1UF 25V Y5V 0402; Part Number: VJ0402V104ZXXCW1BC; Manufacturer: Vishay Vitramon; Temperature Coefficient: Y5V (F); Tolerance: -20%, +80%; Value: 0.1µF; Applications: General Purpose; Capacitance: 0.1µF; ComponentLink1Description: Datasheet; ComponentLink1URL: https://www.vishay.com/docs/28548/vjw1bcbascomseries.pdf; ComponentLink2Description: DigiKey Link; ComponentLink2URL: http://digikey.com/product-detail/en/vishay-vitramon/VJ0402V104ZXXCW1BC/720-VJ0402V104ZXXCW1BCCT-ND/11197929; Device Package: 0402 (1005 Metric); LastUpdated: 9/2/2020 1:01:10 AM; Lifecycle Status: Active; Minimum Order: 1; Mounting Type: Surface Mount, MLCC; Operating Temperature: -25°C ~ 85°C; Package / Case: 0402 (1005 Metric); Packaging: TapeAndReel; PartId: 26172; Part Status: Active; Price: 0.02; Series: VJ; Supplier 1: DigiKey; Supplier Part Number 1: 720-VJ0402V104ZXXCW1BCCT-ND; Voltage - Rated: 25V
footprint CAP 0402_1005
pins: 1, 2

## VJ0402Y101KXACW1BC
designator C?, comment 100pF
CAP CER 100PF 50V 10% X7R 0402; Part Number: VJ0402Y101KXACW1BC; Manufacturer: Vishay Vitramon; Value: 100pF; Applications: General Purpose; Capacitance: 100pF; ComponentLink1Description: Datasheet; ComponentLink1URL: https://www.vishay.com/docs/28548/vjw1bcbascomseries.pdf; ComponentLink2Description: DigiKey Link; ComponentLink2URL: http://digikey.com/product-detail/en/vishay-vitramon/VJ0402Y101KXACW1BC/720-1641-1-ND/8324061; Device Package: 0402 (1005 Metric); LastUpdated: 9/2/2020 1:02:11 AM; Lifecycle Status: Active; Minimum Order: 1; Mounting Type: Surface Mount, MLCC; Operating Temperature: -55°C ~ 125°C; Package / Case: 0402 (1005 Metric); Packaging: TapeAndReel; PartId: 7676; Part Status: Active; Price: 0.01; Series: VJ; Size / Dimension: 0.039" L x 0.020" W (1.00mm x 0.50mm); Supplier 1: DigiKey; Supplier Part Number 1: 720-1641-1-ND; Temperature Coefficient: X7R; Thickness (Max): 0.024" (0.61mm); Tolerance: ±10%; Voltage - Rated: 50V
footprint CAP 0402_1005
pins: 1, 2

## VJ0402Y101KXXPW1BC
designator C?, comment 100pF
CAP CER 100PF 25V X7R 0402; Part Number: VJ0402Y101KXXPW1BC; Manufacturer: Vishay Vitramon; Tolerance: ±10%; Value: 100pF; Applications: General Purpose; Capacitance: 100pF; ComponentLink1Description: Datasheet; ComponentLink1URL: https://www.vishay.com/docs/28548/vjw1bcbascomseries.pdf; ComponentLink2Description: DigiKey Link; ComponentLink2URL: http://digikey.com/product-detail/en/vishay-vitramon/VJ0402Y101KXXPW1BC/720-VJ0402Y101KXXPW1BCCT-ND/11198166; Device Package: 0402 (1005 Metric); LastUpdated: 9/2/2020 1:01:10 AM; Lifecycle Status: Active; Minimum Order: 1; Mounting Type: Surface Mount, MLCC; Operating Temperature: -55°C ~ 125°C; Package / Case: 0402 (1005 Metric); Packaging: TapeAndReel; PartId: 26178; Part Status: Active; Price: 0.01; Series: VJ; Supplier 1: DigiKey; Supplier Part Number 1: 720-VJ0402Y101KXXPW1BCCT-ND; Temperature Coefficient: X7R; Voltage - Rated: 25V
footprint CAP 0402_1005
pins: 1, 2

## VJ0402Y102JXAAC
designator C?, comment 1000pF
CAP CER 1000PF 50V X7R 0402; Part Number: VJ0402Y102JXAAC; Manufacturer: Vishay Vitramon; Tolerance: ±5%; Value: 1000pF; Applications: General Purpose; Capacitance: 1000pF; ComponentLink1Description: Datasheet; ComponentLink1URL: http://www.vishay.com/docs/45199/vjcommercialseries.pdf; ComponentLink2Description: DigiKey Link; ComponentLink2URL: http://digikey.com/product-detail/en/vishay-vitramon/VJ0402Y102JXAAC/720-VJ0402Y102JXAACCT-ND/11198111; Device Package: 0402 (1005 Metric); LastUpdated: 9/2/2020 1:01:11 AM; Lifecycle Status: Active; Minimum Order: 1; Mounting Type: Surface Mount, MLCC; Operating Temperature: -55°C ~ 150°C; Package / Case: 0402 (1005 Metric); Packaging: TapeAndReel; PartId: 26187; Part Status: Active; Price: 0.08; Series: VJ; Supplier 1: DigiKey; Supplier Part Number 1: 720-VJ0402Y102JXAACCT-ND; Temperature Coefficient: X7R; Voltage - Rated: 50V
footprint CAP 0402_1005
pins: 1, 2

## VJ0402Y102KXAAC
designator C?, comment 1000pF
CAP CER 1000PF 50V X7R 0402; Part Number: VJ0402Y102KXAAC; Manufacturer: Vishay Vitramon; Tolerance: ±10%; Value: 1000pF; Applications: General Purpose; Capacitance: 1000pF; ComponentLink1Description: Datasheet; ComponentLink1URL: http://www.vishay.com/docs/45199/vjcommercialseries.pdf; ComponentLink2Description: DigiKey Link; ComponentLink2URL: http://digikey.com/product-detail/en/vishay-vitramon/VJ0402Y102KXAAC/720-1642-1-ND/8324062; Device Package: 0402 (1005 Metric); LastUpdated: 9/2/2020 1:02:09 AM; Lifecycle Status: Active; Minimum Order: 1; Mounting Type: Surface Mount, MLCC; Operating Temperature: -55°C ~ 150°C; Package / Case: 0402 (1005 Metric); Packaging: TapeAndReel; PartId: 8908; Part Status: Active; Price: 0.08; Series: VJ; Size / Dimension: 0.039" L x 0.020" W (1.00mm x 0.50mm); Supplier 1: DigiKey; Supplier Part Number 1: 720-1642-1-ND; Temperature Coefficient: X7R; Thickness (Max): 0.024" (0.60mm); Voltage - Rated: 50V
footprint CAP 0402_1005
pins: 1, 2

## VJ0402Y102KXACW1BC
designator C?, comment 1000pF
CAP CER 1000PF 50V X7R 0402; Part Number: VJ0402Y102KXACW1BC; Manufacturer: Vishay Vitramon; Tolerance: ±10%; Value: 1000pF; Applications: General Purpose; Capacitance: 1000pF; ComponentLink1Description: Datasheet; ComponentLink1URL: https://www.vishay.com/docs/28548/vjw1bcbascomseries.pdf; ComponentLink2Description: DigiKey Link; ComponentLink2URL: http://digikey.com/product-detail/en/vishay-vitramon/VJ0402Y102KXACW1BC/720-1594-1-ND/420967; Device Package: 0402 (1005 Metric); LastUpdated: 9/2/2020 1:02:24 AM; Lifecycle Status: Active; Minimum Order: 1; Mounting Type: Surface Mount, MLCC; Operating Temperature: -55°C ~ 125°C; Package / Case: 0402 (1005 Metric); Packaging: TapeAndReel; PartId: 1948; Part Status: Active; Price: 0.01; Series: VJ; Size / Dimension: 0.039" L x 0.020" W (1.00mm x 0.50mm); Supplier 1: DigiKey; Supplier Part Number 1: 720-1594-1-ND; Temperature Coefficient: X7R; Thickness (Max): 0.022" (0.55mm); Voltage - Rated: 50V
footprint CAP 0402_1005
pins: 1, 2

## VJ0402Y102KXXAC
designator C?, comment 1000pF
CAP CER 1000PF 25V X7R 0402; Part Number: VJ0402Y102KXXAC; Manufacturer: Vishay Vitramon; Tolerance: ±10%; Value: 1000pF; Applications: General Purpose; Capacitance: 1000pF; ComponentLink1Description: Datasheet; ComponentLink1URL: http://www.vishay.com/docs/45199/vjcommercialseries.pdf; ComponentLink2Description: DigiKey Link; ComponentLink2URL: http://digikey.com/product-detail/en/vishay-vitramon/VJ0402Y102KXXAC/720-1644-1-ND/8324064; Device Package: 0402 (1005 Metric); LastUpdated: 9/2/2020 1:02:14 AM; Lifecycle Status: Active; Minimum Order: 1; Mounting Type: Surface Mount, MLCC; Operating Temperature: -55°C ~ 150°C; Package / Case: 0402 (1005 Metric); Packaging: TapeAndReel; PartId: 6307; Part Status: Active; Price: 0.07; Series: VJ; Size / Dimension: 0.039" L x 0.020" W (1.00mm x 0.50mm); Supplier 1: DigiKey; Supplier Part Number 1: 720-1644-1-ND; Temperature Coefficient: X7R; Thickness (Max): 0.024" (0.60mm); Voltage - Rated: 25V
footprint CAP 0402_1005
pins: 1, 2

## VJ0402Y103JXQCW1BC
designator C?, comment 10000pF
CAP CER 10000PF 10V X7R 0402; Part Number: VJ0402Y103JXQCW1BC; Manufacturer: Vishay Vitramon; Tolerance: ±5%; Value: 10000pF; Applications: General Purpose; Capacitance: 10000pF; ComponentLink1Description: Datasheet; ComponentLink1URL: https://www.vishay.com/docs/28548/vjw1bcbascomseries.pdf; ComponentLink2Description: DigiKey Link; ComponentLink2URL: http://digikey.com/product-detail/en/vishay-vitramon/VJ0402Y103JXQCW1BC/720-1645-1-ND/8324065; Device Package: 0402 (1005 Metric); LastUpdated: 9/2/2020 1:02:18 AM; Lifecycle Status: Active; Minimum Order: 1; Mounting Type: Surface Mount, MLCC; Operating Temperature: -55°C ~ 125°C; Package / Case: 0402 (1005 Metric); Packaging: TapeAndReel; PartId: 4459; Part Status: Active; Price: 0.02; Series: VJ; Size / Dimension: 0.039" L x 0.020" W (1.00mm x 0.50mm); Supplier 1: DigiKey; Supplier Part Number 1: 720-1645-1-ND; Temperature Coefficient: X7R; Thickness (Max): 0.022" (0.55mm); Voltage - Rated: 10V
footprint CAP 0402_1005
pins: 1, 2

## VJ0402Y103JXXCW1BC
designator C?, comment 10000pF
CAP CER 10000PF 25V X7R 0402; Part Number: VJ0402Y103JXXCW1BC; Manufacturer: Vishay Vitramon; Tolerance: ±5%; Value: 10000pF; Applications: General Purpose; Capacitance: 10000pF; ComponentLink1Description: Datasheet; ComponentLink1URL: https://www.vishay.com/docs/28548/vjw1bcbascomseries.pdf; ComponentLink2Description: DigiKey Link; ComponentLink2URL: http://digikey.com/product-detail/en/vishay-vitramon/VJ0402Y103JXXCW1BC/720-1646-1-ND/8324066; Device Package: 0402 (1005 Metric); LastUpdated: 9/2/2020 1:02:18 AM; Lifecycle Status: Active; Minimum Order: 1; Mounting Type: Surface Mount, MLCC; Operating Temperature: -55°C ~ 125°C; Package / Case: 0402 (1005 Metric); Packaging: TapeAndReel; PartId: 4488; Part Status: Active; Price: 0.02; Series: VJ; Size / Dimension: 0.039" L x 0.020" W (1.00mm x 0.50mm); Supplier 1: DigiKey; Supplier Part Number 1: 720-1646-1-ND; Temperature Coefficient: X7R; Thickness (Max): 0.022" (0.55mm); Voltage - Rated: 25V
footprint CAP 0402_1005
pins: 1, 2

## VJ0402Y103KXACW1BC
designator C?, comment 10000pF
CAP CER 10000PF 50V X7R 0402; Part Number: VJ0402Y103KXACW1BC; Manufacturer: Vishay Vitramon; Tolerance: ±10%; Value: 10000pF; Applications: General Purpose; Capacitance: 10000pF; ComponentLink1Description: Datasheet; ComponentLink1URL: https://www.vishay.com/docs/28548/vjw1bcbascomseries.pdf; ComponentLink2Description: DigiKey Link; ComponentLink2URL: http://digikey.com/product-detail/en/vishay-vitramon/VJ0402Y103KXACW1BC/720-VJ0402Y103KXACW1BCCT-ND/11198082; Device Package: 0402 (1005 Metric); LastUpdated: 9/2/2020 1:01:11 AM; Lifecycle Status: Active; Minimum Order: 1; Mounting Type: Surface Mount, MLCC; Operating Temperature: -55°C ~ 125°C; Package / Case: 0402 (1005 Metric); Packaging: TapeAndReel; PartId: 26183; Part Status: Active; Price: 0.01; Series: VJ; Supplier 1: DigiKey; Supplier Part Number 1: 720-VJ0402Y103KXACW1BCCT-ND; Temperature Coefficient: X7R; Voltage - Rated: 50V
footprint CAP 0402_1005
pins: 1, 2

## VJ0402Y103KXJAC
designator C?, comment 10000pF
CAP CER 10000PF 16V X7R 0402; Part Number: VJ0402Y103KXJAC; Manufacturer: Vishay Vitramon; Tolerance: ±10%; Value: 10000pF; Applications: General Purpose; Capacitance: 10000pF; ComponentLink1Description: Datasheet; ComponentLink1URL: http://www.vishay.com/docs/45199/vjcommercialseries.pdf; ComponentLink2Description: DigiKey Link; ComponentLink2URL: http://digikey.com/product-detail/en/vishay-vitramon/VJ0402Y103KXJAC/720-1369-1-ND/3986123; Device Package: 0402 (1005 Metric); LastUpdated: 9/2/2020 1:02:14 AM; Lifecycle Status: Active; Minimum Order: 1; Mounting Type: Surface Mount, MLCC; Operating Temperature: -55°C ~ 125°C; Package / Case: 0402 (1005 Metric); Packaging: TapeAndReel; PartId: 6350; Part Status: Active; Price: 0.07; Series: VJ; Size / Dimension: 0.039" L x 0.020" W (1.00mm x 0.50mm); Supplier 1: DigiKey; Supplier Part Number 1: 720-1369-1-ND; Temperature Coefficient: X7R; Thickness (Max): 0.024" (0.60mm); Voltage - Rated: 16V
footprint CAP 0402_1005
pins: 1, 2

## VJ0402Y103KXJAC31
designator C?, comment 10000pF
CAP CER 10000PF 16V X7R 0402; Part Number: VJ0402Y103KXJAC31; Manufacturer: Vishay Vitramon; Tolerance: ±10%; Value: 10000pF; Applications: Automotive; Capacitance: 10000pF; ComponentLink1Description: Datasheet; ComponentLink1URL: http://www.vishay.com/docs/45040/vj31vj34automlcc.pdf; ComponentLink2Description: DigiKey Link; ComponentLink2URL: http://digikey.com/product-detail/en/vishay-vitramon/VJ0402Y103KXJAC31/720-1250-1-ND/2972237; Device Package: 0402 (1005 Metric); Features: High Temperature; LastUpdated: 9/2/2020 1:02:19 AM; Lifecycle Status: Active; Minimum Order: 1; Mounting Type: Surface Mount, MLCC; Operating Temperature: -55°C ~ 150°C; Package / Case: 0402 (1005 Metric); Packaging: TapeAndReel; PartId: 4282; Part Status: Active; Price: 0.04; Ratings: AEC-Q200; Series: VJ; Size / Dimension: 0.039" L x 0.020" W (1.00mm x 0.50mm); Supplier 1: DigiKey; Supplier Part Number 1: 720-1250-1-ND; Temperature Coefficient: X7R; Thickness (Max): 0.024" (0.60mm); Voltage - Rated: 16V
footprint CAP 0402_1005
pins: 1, 2

## VJ0402Y103KXJCW1BC
designator C?, comment 10000pF
CAP CER 10000PF 16V X7R 0402; Part Number: VJ0402Y103KXJCW1BC; Manufacturer: Vishay Vitramon; Tolerance: ±10%; Value: 10000pF; Applications: General Purpose; Capacitance: 10000pF; ComponentLink1Description: Datasheet; ComponentLink1URL: https://www.vishay.com/docs/28548/vjw1bcbascomseries.pdf; ComponentLink2Description: DigiKey Link; ComponentLink2URL: http://digikey.com/product-detail/en/vishay-vitramon/VJ0402Y103KXJCW1BC/720-1595-1-ND/420974; Device Package: 0402 (1005 Metric); LastUpdated: 9/2/2020 1:02:25 AM; Lifecycle Status: Active; Minimum Order: 1; Mounting Type: Surface Mount, MLCC; Operating Temperature: -55°C ~ 125°C; Package / Case: 0402 (1005 Metric); Packaging: TapeAndReel; PartId: 1860; Part Status: Active; Price: 0.01; Series: VJ; Size / Dimension: 0.039" L x 0.020" W (1.00mm x 0.50mm); Supplier 1: DigiKey; Supplier Part Number 1: 720-1595-1-ND; Temperature Coefficient: X7R; Thickness (Max): 0.022" (0.55mm); Voltage - Rated: 16V
footprint CAP 0402_1005
pins: 1, 2